# EAGLE library part AP1609 (library FUCK)
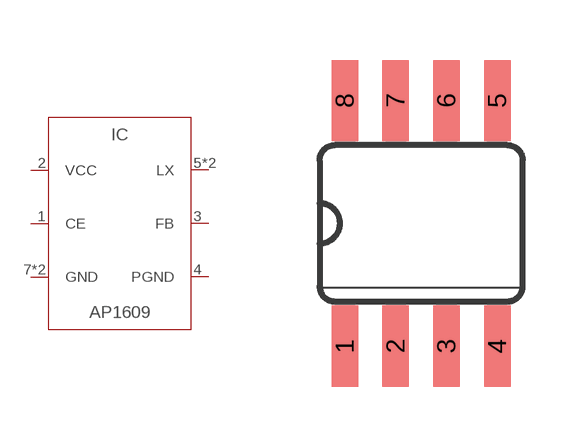
[diagram p2: symbol with the pads of SOIC-8; footprint SOIC-8]

Designator prefix IC

## AP1609  [SOIC-8]
1  CE
2  VCC
3  FB
4  PGND
5  LX
6  LX
7  GND
8  GND

## Footprint SOIC-8 (pad centres in mm)
Small Outline package 8 150 mil
smd 0.66 x 2.032: 1 -1.905,-3.073; 2 -0.635,-3.073; 3 0.635,-3.073; 4 1.905,-3.073; 5 1.905,3.073; 6 0.635,3.073; 7 -0.635,3.073; 8 -1.905,3.073